# EAGLE library part SI4721 (library GTA04b7)
Silicon Labs Si4720/4721 Digital FM RX/TX
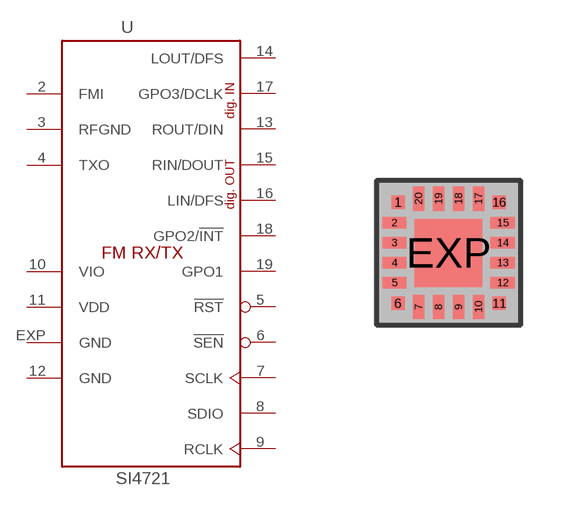
[diagram p38: symbol with the pads of QFN-16+4+E-0.5; footprint QFN-16+4+E-0.5]

Designator prefix -

## SI4721BG  [QFN-16+4+E-0.5]
2  FMI  in
3  RFGND  pwr
4  TXO  out
5  !RST  in
6  !SEN  in
7  SCLK
8  SDIO
9  RCLK  in
10  VIO  pwr
11  VDD  pwr
12  GND  pwr
13  ROUT/DIN
14  LOUT/DFS
15  RIN/DOUT
16  LIN/DFS
17  GPO3/DCLK
18  GPO2/!INT
19  GPO1
EXP  GND  pwr

## Footprint QFN-16+4+E-0.5 (pad centres in mm)
QFN20 for Si47xx
smd 0.34 x 0.34: 1 -1.265,1.265; 6 -1.265,-1.265; 11 1.265,-1.265; 16 1.265,1.265
smd 0.61 x 0.28: 2 -1.355,0.75; 3 -1.355,0.25; 4 -1.355,-0.25; 5 -1.355,-0.75; 12 1.355,-0.75; 13 1.355,-0.25; 14 1.355,0.25; 15 1.355,0.75
smd 0.28 x 0.61: 7 -0.75,-1.355; 8 -0.25,-1.355; 9 0.25,-1.355; 10 0.75,-1.355; 17 0.75,1.355; 18 0.25,1.355; 19 -0.25,1.355; 20 -0.75,1.355
smd 1.7 x 1.7: EXP 0,0